# Altium schematic symbol library SchlibBYB2A.SchLib: 12 symbols
Pins are listed as number, name and electrical type; pins without a type are passive.

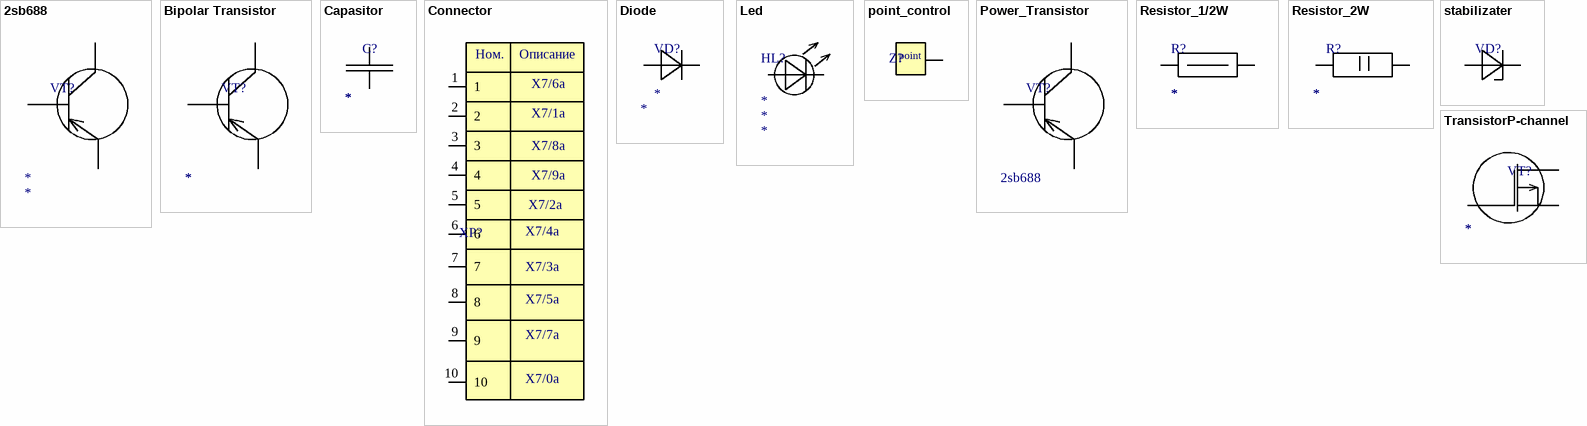
[diagram p0: symbols 2sb688 to TransistorP-channel]

## 2sb688
designator VT?
marka: *; package: *
footprint TO-247-3
pins: 1, 2, 3

## Bipolar Transistor
designator VT?
Marka: *; Package: *
footprint TO-92
pins: 1, 2, 3

## Capasitor
designator C?
Marka: *; value: *; Package: *
footprint Capasitor
pins: 1, 2

## Connector
designator XP?  (value not drawn)
footprint Connector
pins: 1, 2, 3, 4, 5, 6, 7, 8, 9, 10
text: Ном.; Описание; X7/6a; X7/1a; X7/8a; X7/9a; X7/2a; X7/4a; X7/3a; X7/5a; X7/7a; X7/0a

## Diode
designator VD?
Marka: *; Package: *
footprint DO-15-Vertical
footprint DO-41-vertical
pins: 1, 2

## Led
designator HL?
Marka: *; Package: *; Color: *
footprint GNLR
pins: 1, 2

## point_control
designator Z?  (value not drawn)
footprint point_control
pins: 1
text: point

## Power_Transistor
designator VT?  Marka: 2sb688  (hidden comment: *)
Package: TO-247-3
footprint TO-247-3
pins: 1, 2, 3

## Resistor_1/2W
designator R?
Value: *; Marka: *; Package: *
footprint RESC5025L (Chip Resistor, Body 5.0x2.5mm, IPC High Density)
pins: 1, 2

## Resistor_2W
designator R?
Package: *; Value: *; Marka: *
footprint Resistor_2W
pins: 1, 2

## stabilizater
designator VD?  (value not drawn)
Marka: *; Package: *
footprint DO-41-vertical
pins: 1, 2

## TransistorP-channel
designator VT?
Marka: *; Package: *
footprint TO254P1510-3_4L (D2-PAK, 4-Leads, Body 8.8x10.4mm, Pitch 2.54mm, Lead Span 15.1mm, IPC High Density)
pins: 1 G, 2 D, 3 Source